# Altium footprint library Connector_PinHeader_2.00mm.PcbLib: 278 footprints (part 2 of 18)
Each footprint in its own frame and in the unit in brackets; x right, y up, seen from the top. Pads: shape width x height; smd on the part's side, far side on the other; paste and mask are expansions set on the pad; w line width, h text height; cw(c..) or ccw(c..) is an arc to the next point about the centre after c.
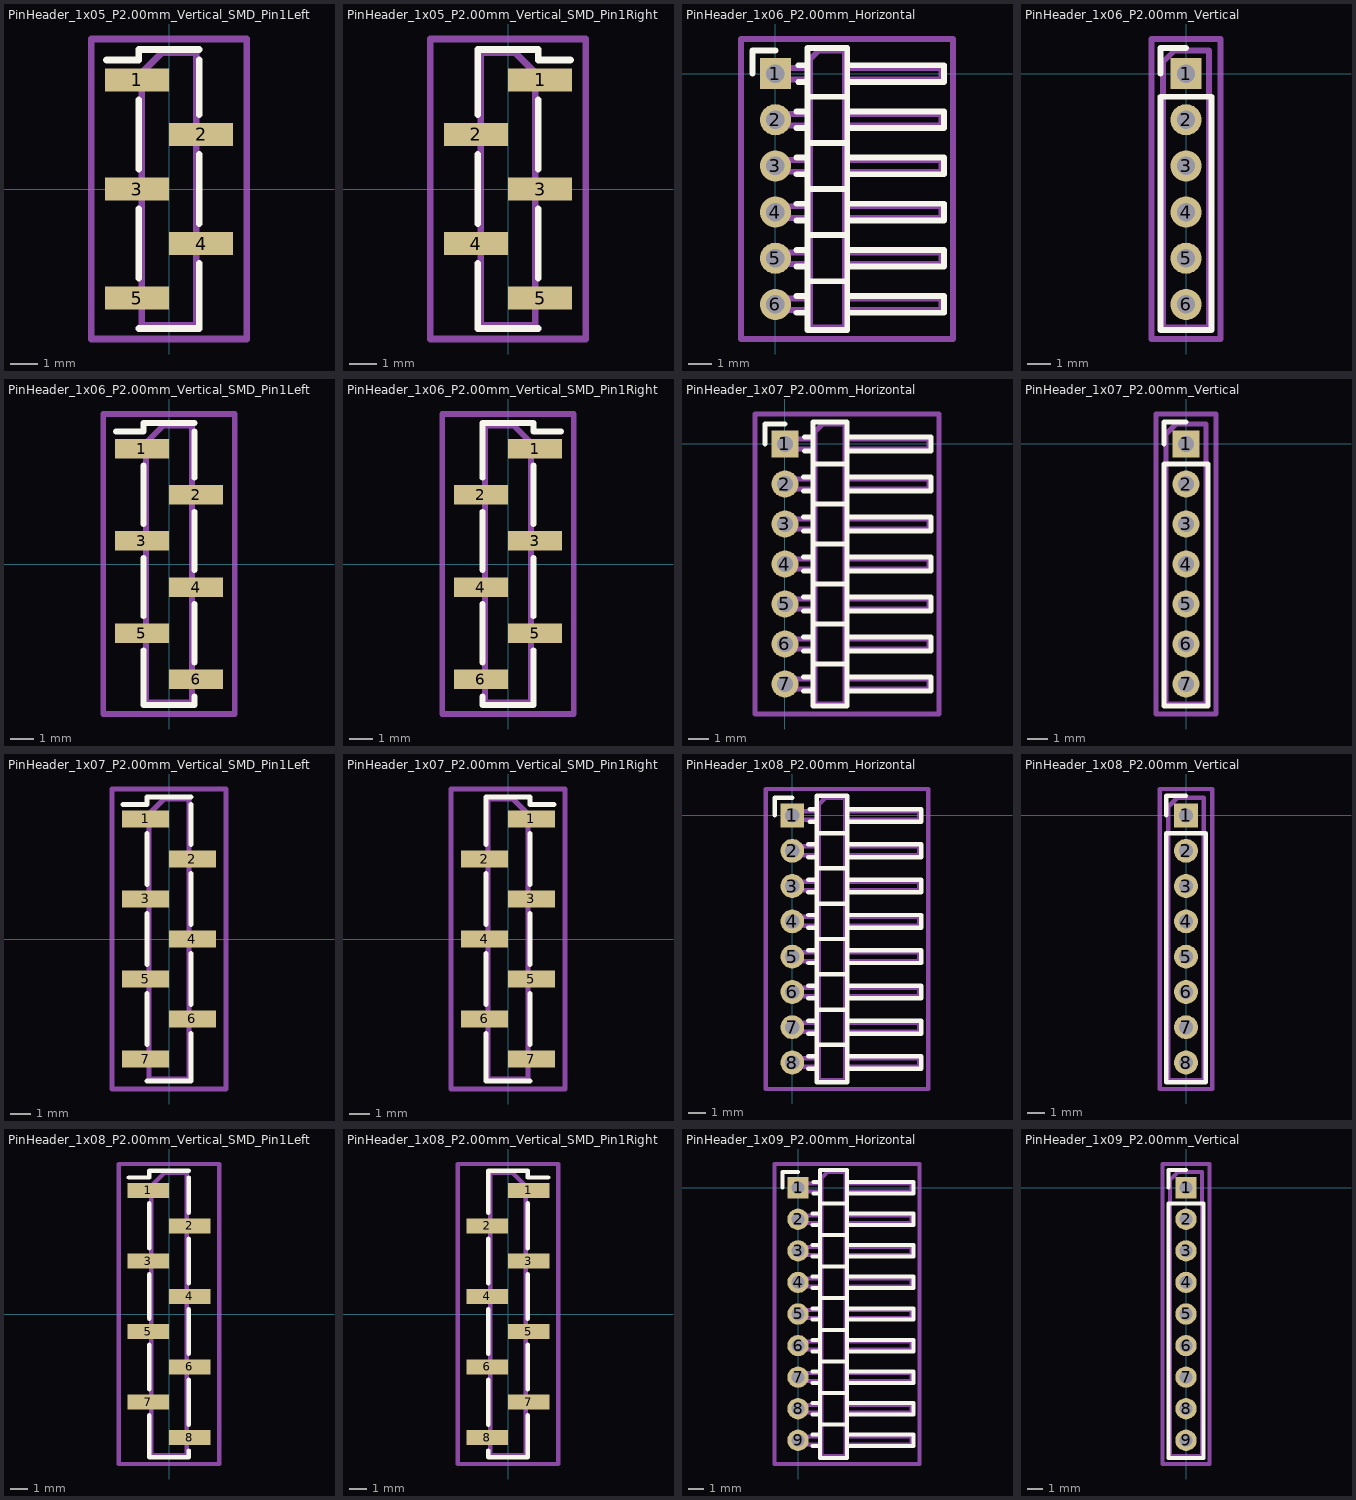
[diagram p1: the footprints below, top view; thin cyan lines are the x and y axes]

## PinHeader_1x05_P2.00mm_Vertical_SMD_Pin1Left [mm]
pads (5):
  rect 2.35x0.85 smd: 1(-1.175,4) 2(1.175,2) 3(-1.175,0) 4(1.175,-2) 5(-1.175,-4)
F.SilkS:
  lines w0.254: -2.29,4.735 -1.11,4.735 -1.11,5.11 1.11,5.11 ; -1.11,-5.11 1.11,-5.11 ; -1.11,-3.265 -1.11,-0.735 ; -1.11,0.735 -1.11,3.265 ; 1.11,-4.735 1.11,-5.11 ; 1.11,-2.735 1.11,-5.11 ; 1.11,-1.265 1.11,1.265 ; 1.11,2.735 1.11,4.735
Top Assembly:
  lines w0.254: -1,-4.25 -2.1,-4.25 -2.1,-3.75 -1,-3.75 ; -1,-0.25 -2.1,-0.25 -2.1,0.25 -1,0.25 ; -1,3.75 -2.1,3.75 -2.1,4.25 -1,4.25 ; 1,-2.25 2.1,-2.25 2.1,-1.75 1,-1.75 ; 1,1.75 2.1,1.75 2.1,2.25 1,2.25 ; -1,4.25 -1,-5 1,-5 1,5 -0.25,5 -1,4.25
  text "'.Designator'" at 0.84,-4.047 h1
Top Courtyard:
  lines w0.254: -2.85,-5.5 2.85,-5.5 2.85,5.5 -2.85,5.5 -2.85,-5.5
Top Designator:
  text ".Designator" at -7.618,-0.508 h1.52

## PinHeader_1x05_P2.00mm_Vertical_SMD_Pin1Right [mm]
pads (5):
  rect 2.35x0.85 smd: 1(1.175,4) 2(-1.175,2) 3(1.175,0) 4(-1.175,-2) 5(1.175,-4)
F.SilkS:
  lines w0.254: -1.11,-4.735 -1.11,-5.11 ; -1.11,-2.735 -1.11,-5.11 ; -1.11,-1.265 -1.11,1.265 ; -1.11,4.735 -1.11,2.735 -1.11,5.11 1.11,5.11 1.11,4.735 2.29,4.735 ; 1.11,-5.11 -1.11,-5.11 ; 1.11,-3.265 1.11,-0.735 ; 1.11,0.735 1.11,3.265
Top Assembly:
  lines w0.254: -1,-2.25 -2.1,-2.25 -2.1,-1.75 -1,-1.75 ; -1,1.75 -2.1,1.75 -2.1,2.25 -1,2.25 ; 1,-4.25 2.1,-4.25 2.1,-3.75 1,-3.75 ; 1,-0.25 2.1,-0.25 2.1,0.25 1,0.25 ; 1,3.75 2.1,3.75 2.1,4.25 1,4.25 ; 1,4.25 1,-5 -1,-5 -1,5 0.25,5 1,4.25
  text "'.Designator'" at 0.84,-4.047 h1
Top Courtyard:
  lines w0.254: -2.85,-5.5 2.85,-5.5 2.85,5.5 -2.85,5.5 -2.85,-5.5
Top Designator:
  text ".Designator" at -7.618,-0.508 h1.52

## PinHeader_1x06_P2.00mm_Horizontal [mm]
pads (6):
  rect 1.35x1.35 hole 0.8: 1(0,0)
  round 1.35 hole 0.8: 2(0,-2) 3(0,-4) 4(0,-6) 5(0,-8) 6(0,-10)
F.SilkS:
  lines w0.254: -1,0 -1,1 0,1 ; 0.917,-10.36 1.39,-10.36 ; 0.917,-9.64 1.39,-9.64 ; 0.917,-8.36 1.39,-8.36 ; 0.917,-7.64 1.39,-7.64 ; 0.917,-6.36 1.39,-6.36 ; 0.917,-5.64 1.39,-5.64 ; 0.917,-4.36 1.39,-4.36 ; 0.917,-3.64 1.39,-3.64 ; 0.917,-2.36 1.39,-2.36 ; 0.917,-1.64 1.39,-1.64 ; 0.985,-0.36 1.39,-0.36 ; 0.985,0.36 1.39,0.36 ; 1.39,-9 3.11,-9 ; 1.39,-7 3.11,-7 ; 1.39,-5 3.11,-5 ; 1.39,-3 3.11,-3 ; 1.39,-1 3.11,-1 ; 3.11,-10.36 7.31,-10.36 7.31,-9.64 3.11,-9.64 ; 3.11,-8.36 7.31,-8.36 7.31,-7.64 3.11,-7.64 ; 3.11,-6.36 7.31,-6.36 7.31,-5.64 3.11,-5.64 ; 3.11,-4.36 7.31,-4.36 7.31,-3.64 3.11,-3.64 ; 3.11,-2.36 7.31,-2.36 7.31,-1.64 3.11,-1.64 ; 1.39,-11.11 3.11,-11.11 3.11,1.11 1.39,1.11 1.39,-11.11 ; 3.11,-0.36 7.31,-0.36 7.31,0.36 3.11,0.36 3.11,-0.36
Top Assembly:
  lines w0.254: 1.5,-10.25 -0.25,-10.25 -0.25,-9.75 1.5,-9.75 ; 1.5,-8.25 -0.25,-8.25 -0.25,-7.75 1.5,-7.75 ; 1.5,-6.25 -0.25,-6.25 -0.25,-5.75 1.5,-5.75 ; 1.5,-4.25 -0.25,-4.25 -0.25,-3.75 1.5,-3.75 ; 1.5,-2.25 -0.25,-2.25 -0.25,-1.75 1.5,-1.75 ; 1.5,-0.25 -0.25,-0.25 -0.25,0.25 1.5,0.25 ; 3,-10.25 7.2,-10.25 7.2,-9.75 3,-9.75 ; 3,-8.25 7.2,-8.25 7.2,-7.75 3,-7.75 ; 3,-6.25 7.2,-6.25 7.2,-5.75 3,-5.75 ; 3,-4.25 7.2,-4.25 7.2,-3.75 3,-3.75 ; 3,-2.25 7.2,-2.25 7.2,-1.75 3,-1.75 ; 3,-0.25 7.2,-0.25 7.2,0.25 3,0.25 ; 1.5,-11 3,-11 3,1 1.875,1 1.5,0.625 1.5,-11
  text "'.Designator'" at 3.006,-8.642 h0.9
Top Courtyard:
  lines w0.254: -1.5,-11.5 7.7,-11.5 7.7,1.5 -1.5,1.5 -1.5,-11.5
Top Designator:
  text ".Designator" at -4.518,-5.508 h1.52

## PinHeader_1x06_P2.00mm_Vertical [mm]
pads (6):
  rect 1.35x1.35 hole 0.8: 1(0,0)
  round 1.35 hole 0.8: 2(0,-2) 3(0,-4) 4(0,-6) 5(0,-8) 6(0,-10)
F.SilkS:
  lines w0.254: -1.11,0 -1.11,1.11 0,1.11 ; -1.11,-11.11 1.11,-11.11 1.11,-1 -1.11,-1 -1.11,-11.11
Top Assembly:
  lines w0.254: -1,-11 1,-11 1,1 -0.5,1 -1,0.5 -1,-11
  text "'.Designator'" at 0.84,-9.047 h1
Top Courtyard:
  lines w0.254: -1.5,-11.5 1.5,-11.5 1.5,1.5 -1.5,1.5 -1.5,-11.5
Top Designator:
  text ".Designator" at -7.618,-5.508 h1.52

## PinHeader_1x06_P2.00mm_Vertical_SMD_Pin1Left [mm]
pads (6):
  rect 2.35x0.85 smd: 1(-1.175,5) 2(1.175,3) 3(-1.175,1) 4(1.175,-1) 5(-1.175,-3) 6(1.175,-5)
F.SilkS:
  lines w0.254: -2.29,5.735 -1.11,5.735 -1.11,6.11 1.11,6.11 ; -1.11,-3.735 -1.11,-6.11 1.11,-6.11 1.11,-5.735 ; -1.11,-2.265 -1.11,0.265 ; -1.11,1.735 -1.11,4.265 ; 1.11,-4.265 1.11,-1.735 ; 1.11,-0.265 1.11,2.265 ; 1.11,3.735 1.11,5.735
Top Assembly:
  lines w0.254: -1,-3.25 -2.1,-3.25 -2.1,-2.75 -1,-2.75 ; -1,0.75 -2.1,0.75 -2.1,1.25 -1,1.25 ; -1,4.75 -2.1,4.75 -2.1,5.25 -1,5.25 ; 1,-5.25 2.1,-5.25 2.1,-4.75 1,-4.75 ; 1,-1.25 2.1,-1.25 2.1,-0.75 1,-0.75 ; 1,2.75 2.1,2.75 2.1,3.25 1,3.25 ; -1,5.25 -1,-6 1,-6 1,6 -0.25,6 -1,5.25
  text "'.Designator'" at 0.84,-4.047 h1
Top Courtyard:
  lines w0.254: -2.85,-6.5 2.85,-6.5 2.85,6.5 -2.85,6.5 -2.85,-6.5
Top Designator:
  text ".Designator" at -7.618,-0.508 h1.52

## PinHeader_1x06_P2.00mm_Vertical_SMD_Pin1Right [mm]
pads (6):
  rect 2.35x0.85 smd: 1(1.175,5) 2(-1.175,3) 3(1.175,1) 4(-1.175,-1) 5(1.175,-3) 6(-1.175,-5)
F.SilkS:
  lines w0.254: -1.11,-5.735 -1.11,-6.11 1.11,-6.11 1.11,-3.735 ; -1.11,-4.265 -1.11,-1.735 ; -1.11,-0.265 -1.11,2.265 ; -1.11,5.735 -1.11,3.735 -1.11,6.11 1.11,6.11 1.11,5.735 2.29,5.735 ; 1.11,-2.265 1.11,0.265 ; 1.11,1.735 1.11,4.265
Top Assembly:
  lines w0.254: -1,-5.25 -2.1,-5.25 -2.1,-4.75 -1,-4.75 ; -1,-1.25 -2.1,-1.25 -2.1,-0.75 -1,-0.75 ; -1,2.75 -2.1,2.75 -2.1,3.25 -1,3.25 ; 1,-3.25 2.1,-3.25 2.1,-2.75 1,-2.75 ; 1,0.75 2.1,0.75 2.1,1.25 1,1.25 ; 1,4.75 2.1,4.75 2.1,5.25 1,5.25 ; 1,5.25 1,-6 -1,-6 -1,6 0.25,6 1,5.25
  text "'.Designator'" at 0.84,-4.047 h1
Top Courtyard:
  lines w0.254: -2.85,-6.5 2.85,-6.5 2.85,6.5 -2.85,6.5 -2.85,-6.5
Top Designator:
  text ".Designator" at -7.618,-0.508 h1.52

## PinHeader_1x07_P2.00mm_Horizontal [mm]
pads (7):
  rect 1.35x1.35 hole 0.8: 1(0,0)
  round 1.35 hole 0.8: 2(0,-2) 3(0,-4) 4(0,-6) 5(0,-8) 6(0,-10) 7(0,-12)
F.SilkS:
  lines w0.254: -1,0 -1,1 0,1 ; 0.917,-12.36 1.39,-12.36 ; 0.917,-11.64 1.39,-11.64 ; 0.917,-10.36 1.39,-10.36 ; 0.917,-9.64 1.39,-9.64 ; 0.917,-8.36 1.39,-8.36 ; 0.917,-7.64 1.39,-7.64 ; 0.917,-6.36 1.39,-6.36 ; 0.917,-5.64 1.39,-5.64 ; 0.917,-4.36 1.39,-4.36 ; 0.917,-3.64 1.39,-3.64 ; 0.917,-2.36 1.39,-2.36 ; 0.917,-1.64 1.39,-1.64 ; 0.985,-0.36 1.39,-0.36 ; 0.985,0.36 1.39,0.36 ; 1.39,-11 3.11,-11 ; 1.39,-9 3.11,-9 ; 1.39,-7 3.11,-7 ; 1.39,-5 3.11,-5 ; 1.39,-3 3.11,-3 ; 1.39,-1 3.11,-1 ; 3.11,-12.36 7.31,-12.36 7.31,-11.64 3.11,-11.64 ; 3.11,-10.36 7.31,-10.36 7.31,-9.64 3.11,-9.64 ; 3.11,-8.36 7.31,-8.36 7.31,-7.64 3.11,-7.64 ; 3.11,-6.36 7.31,-6.36 7.31,-5.64 3.11,-5.64 ; 3.11,-4.36 7.31,-4.36 7.31,-3.64 3.11,-3.64 ; 3.11,-2.36 7.31,-2.36 7.31,-1.64 3.11,-1.64 ; 1.39,-13.11 3.11,-13.11 3.11,1.11 1.39,1.11 1.39,-13.11 ; 3.11,-0.36 7.31,-0.36 7.31,0.36 3.11,0.36 3.11,-0.36
Top Assembly:
  lines w0.254: 1.5,-12.25 -0.25,-12.25 -0.25,-11.75 1.5,-11.75 ; 1.5,-10.25 -0.25,-10.25 -0.25,-9.75 1.5,-9.75 ; 1.5,-8.25 -0.25,-8.25 -0.25,-7.75 1.5,-7.75 ; 1.5,-6.25 -0.25,-6.25 -0.25,-5.75 1.5,-5.75 ; 1.5,-4.25 -0.25,-4.25 -0.25,-3.75 1.5,-3.75 ; 1.5,-2.25 -0.25,-2.25 -0.25,-1.75 1.5,-1.75 ; 1.5,-0.25 -0.25,-0.25 -0.25,0.25 1.5,0.25 ; 3,-12.25 7.2,-12.25 7.2,-11.75 3,-11.75 ; 3,-10.25 7.2,-10.25 7.2,-9.75 3,-9.75 ; 3,-8.25 7.2,-8.25 7.2,-7.75 3,-7.75 ; 3,-6.25 7.2,-6.25 7.2,-5.75 3,-5.75 ; 3,-4.25 7.2,-4.25 7.2,-3.75 3,-3.75 ; 3,-2.25 7.2,-2.25 7.2,-1.75 3,-1.75 ; 3,-0.25 7.2,-0.25 7.2,0.25 3,0.25 ; 1.5,-13 3,-13 3,1 1.875,1 1.5,0.625 1.5,-13
  text "'.Designator'" at 3.006,-9.642 h0.9
Top Courtyard:
  lines w0.254: -1.5,-13.5 7.7,-13.5 7.7,1.5 -1.5,1.5 -1.5,-13.5
Top Designator:
  text ".Designator" at -4.518,-6.508 h1.52

## PinHeader_1x07_P2.00mm_Vertical [mm]
pads (7):
  rect 1.35x1.35 hole 0.8: 1(0,0)
  round 1.35 hole 0.8: 2(0,-2) 3(0,-4) 4(0,-6) 5(0,-8) 6(0,-10) 7(0,-12)
F.SilkS:
  lines w0.254: -1.11,0 -1.11,1.11 0,1.11 ; -1.11,-13.11 1.11,-13.11 1.11,-1 -1.11,-1 -1.11,-13.11
Top Assembly:
  lines w0.254: -1,-13 1,-13 1,1 -0.5,1 -1,0.5 -1,-13
  text "'.Designator'" at 0.84,-10.047 h1
Top Courtyard:
  lines w0.254: -1.5,-13.5 1.5,-13.5 1.5,1.5 -1.5,1.5 -1.5,-13.5
Top Designator:
  text ".Designator" at -7.618,-6.508 h1.52

## PinHeader_1x07_P2.00mm_Vertical_SMD_Pin1Left [mm]
pads (7):
  rect 2.35x0.85 smd: 1(-1.175,6) 2(1.175,4) 3(-1.175,2) 4(1.175,0) 5(-1.175,-2) 6(1.175,-4) 7(-1.175,-6)
F.SilkS:
  lines w0.254: -2.29,6.735 -1.11,6.735 -1.11,7.11 1.11,7.11 ; -1.11,-7.11 1.11,-7.11 ; -1.11,-5.265 -1.11,-2.735 ; -1.11,-1.265 -1.11,1.265 ; -1.11,2.735 -1.11,5.265 ; 1.11,-6.735 1.11,-7.11 ; 1.11,-4.735 1.11,-7.11 ; 1.11,-3.265 1.11,-0.735 ; 1.11,0.735 1.11,3.265 ; 1.11,4.735 1.11,6.735
Top Assembly:
  lines w0.254: -1,-6.25 -2.1,-6.25 -2.1,-5.75 -1,-5.75 ; -1,-2.25 -2.1,-2.25 -2.1,-1.75 -1,-1.75 ; -1,1.75 -2.1,1.75 -2.1,2.25 -1,2.25 ; -1,5.75 -2.1,5.75 -2.1,6.25 -1,6.25 ; 1,-4.25 2.1,-4.25 2.1,-3.75 1,-3.75 ; 1,-0.25 2.1,-0.25 2.1,0.25 1,0.25 ; 1,3.75 2.1,3.75 2.1,4.25 1,4.25 ; -1,6.25 -1,-7 1,-7 1,7 -0.25,7 -1,6.25
  text "'.Designator'" at 0.84,-4.047 h1
Top Courtyard:
  lines w0.254: -2.85,-7.5 2.85,-7.5 2.85,7.5 -2.85,7.5 -2.85,-7.5
Top Designator:
  text ".Designator" at -7.618,-0.508 h1.52

## PinHeader_1x07_P2.00mm_Vertical_SMD_Pin1Right [mm]
pads (7):
  rect 2.35x0.85 smd: 1(1.175,6) 2(-1.175,4) 3(1.175,2) 4(-1.175,0) 5(1.175,-2) 6(-1.175,-4) 7(1.175,-6)
F.SilkS:
  lines w0.254: -1.11,-6.735 -1.11,-7.11 ; -1.11,-4.735 -1.11,-7.11 ; -1.11,-3.265 -1.11,-0.735 ; -1.11,0.735 -1.11,3.265 ; -1.11,6.735 -1.11,4.735 -1.11,7.11 1.11,7.11 1.11,6.735 2.29,6.735 ; 1.11,-7.11 -1.11,-7.11 ; 1.11,-5.265 1.11,-2.735 ; 1.11,-1.265 1.11,1.265 ; 1.11,2.735 1.11,5.265
Top Assembly:
  lines w0.254: -1,-4.25 -2.1,-4.25 -2.1,-3.75 -1,-3.75 ; -1,-0.25 -2.1,-0.25 -2.1,0.25 -1,0.25 ; -1,3.75 -2.1,3.75 -2.1,4.25 -1,4.25 ; 1,-6.25 2.1,-6.25 2.1,-5.75 1,-5.75 ; 1,-2.25 2.1,-2.25 2.1,-1.75 1,-1.75 ; 1,1.75 2.1,1.75 2.1,2.25 1,2.25 ; 1,5.75 2.1,5.75 2.1,6.25 1,6.25 ; 1,6.25 1,-7 -1,-7 -1,7 0.25,7 1,6.25
  text "'.Designator'" at 0.84,-4.047 h1
Top Courtyard:
  lines w0.254: -2.85,-7.5 2.85,-7.5 2.85,7.5 -2.85,7.5 -2.85,-7.5
Top Designator:
  text ".Designator" at -7.618,-0.508 h1.52

## PinHeader_1x08_P2.00mm_Horizontal [mm]
pads (8):
  rect 1.35x1.35 hole 0.8: 1(0,0)
  round 1.35 hole 0.8: 2(0,-2) 3(0,-4) 4(0,-6) 5(0,-8) 6(0,-10) 7(0,-12) 8(0,-14)
F.SilkS:
  lines w0.254: -1,0 -1,1 0,1 ; 0.917,-14.36 1.39,-14.36 ; 0.917,-13.64 1.39,-13.64 ; 0.917,-12.36 1.39,-12.36 ; 0.917,-11.64 1.39,-11.64 ; 0.917,-10.36 1.39,-10.36 ; 0.917,-9.64 1.39,-9.64 ; 0.917,-8.36 1.39,-8.36 ; 0.917,-7.64 1.39,-7.64 ; 0.917,-6.36 1.39,-6.36 ; 0.917,-5.64 1.39,-5.64 ; 0.917,-4.36 1.39,-4.36 ; 0.917,-3.64 1.39,-3.64 ; 0.917,-2.36 1.39,-2.36 ; 0.917,-1.64 1.39,-1.64 ; 0.985,-0.36 1.39,-0.36 ; 0.985,0.36 1.39,0.36 ; 1.39,-13 3.11,-13 ; 1.39,-11 3.11,-11 ; 1.39,-9 3.11,-9 ; 1.39,-7 3.11,-7 ; 1.39,-5 3.11,-5 ; 1.39,-3 3.11,-3 ; 1.39,-1 3.11,-1 ; 3.11,-14.36 7.31,-14.36 7.31,-13.64 3.11,-13.64 ; 3.11,-12.36 7.31,-12.36 7.31,-11.64 3.11,-11.64 ; 3.11,-10.36 7.31,-10.36 7.31,-9.64 3.11,-9.64 ; 3.11,-8.36 7.31,-8.36 7.31,-7.64 3.11,-7.64 ; 3.11,-6.36 7.31,-6.36 7.31,-5.64 3.11,-5.64 ; 3.11,-4.36 7.31,-4.36 7.31,-3.64 3.11,-3.64 ; 3.11,-2.36 7.31,-2.36 7.31,-1.64 3.11,-1.64 ; 1.39,-15.11 3.11,-15.11 3.11,1.11 1.39,1.11 1.39,-15.11 ; 3.11,-0.36 7.31,-0.36 7.31,0.36 3.11,0.36 3.11,-0.36
Top Assembly:
  lines w0.254: 1.5,-14.25 -0.25,-14.25 -0.25,-13.75 1.5,-13.75 ; 1.5,-12.25 -0.25,-12.25 -0.25,-11.75 1.5,-11.75 ; 1.5,-10.25 -0.25,-10.25 -0.25,-9.75 1.5,-9.75 ; 1.5,-8.25 -0.25,-8.25 -0.25,-7.75 1.5,-7.75 ; 1.5,-6.25 -0.25,-6.25 -0.25,-5.75 1.5,-5.75 ; 1.5,-4.25 -0.25,-4.25 -0.25,-3.75 1.5,-3.75 ; 1.5,-2.25 -0.25,-2.25 -0.25,-1.75 1.5,-1.75 ; 1.5,-0.25 -0.25,-0.25 -0.25,0.25 1.5,0.25 ; 3,-14.25 7.2,-14.25 7.2,-13.75 3,-13.75 ; 3,-12.25 7.2,-12.25 7.2,-11.75 3,-11.75 ; 3,-10.25 7.2,-10.25 7.2,-9.75 3,-9.75 ; 3,-8.25 7.2,-8.25 7.2,-7.75 3,-7.75 ; 3,-6.25 7.2,-6.25 7.2,-5.75 3,-5.75 ; 3,-4.25 7.2,-4.25 7.2,-3.75 3,-3.75 ; 3,-2.25 7.2,-2.25 7.2,-1.75 3,-1.75 ; 3,-0.25 7.2,-0.25 7.2,0.25 3,0.25 ; 1.5,-15 3,-15 3,1 1.875,1 1.5,0.625 1.5,-15
  text "'.Designator'" at 3.006,-10.642 h0.9
Top Courtyard:
  lines w0.254: -1.5,-15.5 7.7,-15.5 7.7,1.5 -1.5,1.5 -1.5,-15.5
Top Designator:
  text ".Designator" at -4.518,-7.508 h1.52

## PinHeader_1x08_P2.00mm_Vertical [mm]
pads (8):
  rect 1.35x1.35 hole 0.8: 1(0,0)
  round 1.35 hole 0.8: 2(0,-2) 3(0,-4) 4(0,-6) 5(0,-8) 6(0,-10) 7(0,-12) 8(0,-14)
F.SilkS:
  lines w0.254: -1.11,0 -1.11,1.11 0,1.11 ; -1.11,-15.11 1.11,-15.11 1.11,-1 -1.11,-1 -1.11,-15.11
Top Assembly:
  lines w0.254: -1,-15 1,-15 1,1 -0.5,1 -1,0.5 -1,-15
  text "'.Designator'" at 0.84,-11.047 h1
Top Courtyard:
  lines w0.254: -1.5,-15.5 1.5,-15.5 1.5,1.5 -1.5,1.5 -1.5,-15.5
Top Designator:
  text ".Designator" at -7.618,-7.508 h1.52

## PinHeader_1x08_P2.00mm_Vertical_SMD_Pin1Left [mm]
pads (8):
  rect 2.35x0.85 smd: 1(-1.175,7) 2(1.175,5) 3(-1.175,3) 4(1.175,1) 5(-1.175,-1) 6(1.175,-3) 7(-1.175,-5) 8(1.175,-7)
F.SilkS:
  lines w0.254: -2.29,7.735 -1.11,7.735 -1.11,8.11 1.11,8.11 ; -1.11,-5.735 -1.11,-8.11 1.11,-8.11 1.11,-7.735 ; -1.11,-4.265 -1.11,-1.735 ; -1.11,-0.265 -1.11,2.265 ; -1.11,3.735 -1.11,6.265 ; 1.11,-6.265 1.11,-3.735 ; 1.11,-2.265 1.11,0.265 ; 1.11,1.735 1.11,4.265 ; 1.11,5.735 1.11,7.735
Top Assembly:
  lines w0.254: -1,-5.25 -2.1,-5.25 -2.1,-4.75 -1,-4.75 ; -1,-1.25 -2.1,-1.25 -2.1,-0.75 -1,-0.75 ; -1,2.75 -2.1,2.75 -2.1,3.25 -1,3.25 ; -1,6.75 -2.1,6.75 -2.1,7.25 -1,7.25 ; 1,-7.25 2.1,-7.25 2.1,-6.75 1,-6.75 ; 1,-3.25 2.1,-3.25 2.1,-2.75 1,-2.75 ; 1,0.75 2.1,0.75 2.1,1.25 1,1.25 ; 1,4.75 2.1,4.75 2.1,5.25 1,5.25 ; -1,7.25 -1,-8 1,-8 1,8 -0.25,8 -1,7.25
  text "'.Designator'" at 0.84,-4.047 h1
Top Courtyard:
  lines w0.254: -2.85,-8.5 2.85,-8.5 2.85,8.5 -2.85,8.5 -2.85,-8.5
Top Designator:
  text ".Designator" at -7.618,-0.508 h1.52

## PinHeader_1x08_P2.00mm_Vertical_SMD_Pin1Right [mm]
pads (8):
  rect 2.35x0.85 smd: 1(1.175,7) 2(-1.175,5) 3(1.175,3) 4(-1.175,1) 5(1.175,-1) 6(-1.175,-3) 7(1.175,-5) 8(-1.175,-7)
F.SilkS:
  lines w0.254: -1.11,-7.735 -1.11,-8.11 1.11,-8.11 1.11,-5.735 ; -1.11,-6.265 -1.11,-3.735 ; -1.11,-2.265 -1.11,0.265 ; -1.11,1.735 -1.11,4.265 ; -1.11,7.735 -1.11,5.735 -1.11,8.11 1.11,8.11 1.11,7.735 2.29,7.735 ; 1.11,-4.265 1.11,-1.735 ; 1.11,-0.265 1.11,2.265 ; 1.11,3.735 1.11,6.265
Top Assembly:
  lines w0.254: -1,-7.25 -2.1,-7.25 -2.1,-6.75 -1,-6.75 ; -1,-3.25 -2.1,-3.25 -2.1,-2.75 -1,-2.75 ; -1,0.75 -2.1,0.75 -2.1,1.25 -1,1.25 ; -1,4.75 -2.1,4.75 -2.1,5.25 -1,5.25 ; 1,-5.25 2.1,-5.25 2.1,-4.75 1,-4.75 ; 1,-1.25 2.1,-1.25 2.1,-0.75 1,-0.75 ; 1,2.75 2.1,2.75 2.1,3.25 1,3.25 ; 1,6.75 2.1,6.75 2.1,7.25 1,7.25 ; 1,7.25 1,-8 -1,-8 -1,8 0.25,8 1,7.25
  text "'.Designator'" at 0.84,-4.047 h1
Top Courtyard:
  lines w0.254: -2.85,-8.5 2.85,-8.5 2.85,8.5 -2.85,8.5 -2.85,-8.5
Top Designator:
  text ".Designator" at -7.618,-0.508 h1.52

## PinHeader_1x09_P2.00mm_Horizontal [mm]
pads (9):
  rect 1.35x1.35 hole 0.8: 1(0,0)
  round 1.35 hole 0.8: 2(0,-2) 3(0,-4) 4(0,-6) 5(0,-8) 6(0,-10) 7(0,-12) 8(0,-14) 9(0,-16)
F.SilkS:
  lines w0.254: -1,0 -1,1 0,1 ; 0.917,-16.36 1.39,-16.36 ; 0.917,-15.64 1.39,-15.64 ; 0.917,-14.36 1.39,-14.36 ; 0.917,-13.64 1.39,-13.64 ; 0.917,-12.36 1.39,-12.36 ; 0.917,-11.64 1.39,-11.64 ; 0.917,-10.36 1.39,-10.36 ; 0.917,-9.64 1.39,-9.64 ; 0.917,-8.36 1.39,-8.36 ; 0.917,-7.64 1.39,-7.64 ; 0.917,-6.36 1.39,-6.36 ; 0.917,-5.64 1.39,-5.64 ; 0.917,-4.36 1.39,-4.36 ; 0.917,-3.64 1.39,-3.64 ; 0.917,-2.36 1.39,-2.36 ; 0.917,-1.64 1.39,-1.64 ; 0.985,-0.36 1.39,-0.36 ; 0.985,0.36 1.39,0.36 ; 1.39,-15 3.11,-15 ; 1.39,-13 3.11,-13 ; 1.39,-11 3.11,-11 ; 1.39,-9 3.11,-9 ; 1.39,-7 3.11,-7 ; 1.39,-5 3.11,-5 ; 1.39,-3 3.11,-3 ; 1.39,-1 3.11,-1 ; 3.11,-16.36 7.31,-16.36 7.31,-15.64 3.11,-15.64 ; 3.11,-14.36 7.31,-14.36 7.31,-13.64 3.11,-13.64 ; 3.11,-12.36 7.31,-12.36 7.31,-11.64 3.11,-11.64 ; 3.11,-10.36 7.31,-10.36 7.31,-9.64 3.11,-9.64 ; 3.11,-8.36 7.31,-8.36 7.31,-7.64 3.11,-7.64 ; 3.11,-6.36 7.31,-6.36 7.31,-5.64 3.11,-5.64 ; 3.11,-4.36 7.31,-4.36 7.31,-3.64 3.11,-3.64 ; 3.11,-2.36 7.31,-2.36 7.31,-1.64 3.11,-1.64 ; 1.39,-17.11 3.11,-17.11 3.11,1.11 1.39,1.11 1.39,-17.11 ; 3.11,-0.36 7.31,-0.36 7.31,0.36 3.11,0.36 3.11,-0.36
Top Assembly:
  lines w0.254: 1.5,-16.25 -0.25,-16.25 -0.25,-15.75 1.5,-15.75 ; 1.5,-14.25 -0.25,-14.25 -0.25,-13.75 1.5,-13.75 ; 1.5,-12.25 -0.25,-12.25 -0.25,-11.75 1.5,-11.75 ; 1.5,-10.25 -0.25,-10.25 -0.25,-9.75 1.5,-9.75 ; 1.5,-8.25 -0.25,-8.25 -0.25,-7.75 1.5,-7.75 ; 1.5,-6.25 -0.25,-6.25 -0.25,-5.75 1.5,-5.75 ; 1.5,-4.25 -0.25,-4.25 -0.25,-3.75 1.5,-3.75 ; 1.5,-2.25 -0.25,-2.25 -0.25,-1.75 1.5,-1.75 ; 1.5,-0.25 -0.25,-0.25 -0.25,0.25 1.5,0.25 ; 3,-16.25 7.2,-16.25 7.2,-15.75 3,-15.75 ; 3,-14.25 7.2,-14.25 7.2,-13.75 3,-13.75 ; 3,-12.25 7.2,-12.25 7.2,-11.75 3,-11.75 ; 3,-10.25 7.2,-10.25 7.2,-9.75 3,-9.75 ; 3,-8.25 7.2,-8.25 7.2,-7.75 3,-7.75 ; 3,-6.25 7.2,-6.25 7.2,-5.75 3,-5.75 ; 3,-4.25 7.2,-4.25 7.2,-3.75 3,-3.75 ; 3,-2.25 7.2,-2.25 7.2,-1.75 3,-1.75 ; 3,-0.25 7.2,-0.25 7.2,0.25 3,0.25 ; 1.5,-17 3,-17 3,1 1.875,1 1.5,0.625 1.5,-17
  text "'.Designator'" at 3.006,-11.642 h0.9
Top Courtyard:
  lines w0.254: -1.5,-17.5 7.7,-17.5 7.7,1.5 -1.5,1.5 -1.5,-17.5
Top Designator:
  text ".Designator" at -4.518,-8.508 h1.52

## PinHeader_1x09_P2.00mm_Vertical [mm]
pads (9):
  rect 1.35x1.35 hole 0.8: 1(0,0)
  round 1.35 hole 0.8: 2(0,-2) 3(0,-4) 4(0,-6) 5(0,-8) 6(0,-10) 7(0,-12) 8(0,-14) 9(0,-16)
F.SilkS:
  lines w0.254: -1.11,0 -1.11,1.11 0,1.11 ; -1.11,-17.11 1.11,-17.11 1.11,-1 -1.11,-1 -1.11,-17.11
Top Assembly:
  lines w0.254: -1,-17 1,-17 1,1 -0.5,1 -1,0.5 -1,-17
  text "'.Designator'" at 0.84,-12.047 h1
Top Courtyard:
  lines w0.254: -1.5,-17.5 1.5,-17.5 1.5,1.5 -1.5,1.5 -1.5,-17.5
Top Designator:
  text ".Designator" at -7.618,-8.508 h1.52